# Altium footprint library LED.PcbLib: 1 footprints
Each footprint in its own frame and in the unit in brackets; x right, y up, seen from the top. Pads: shape width x height; smd on the part's side, far side on the other; paste and mask are expansions set on the pad; w line width, h text height; cw(c..) or ccw(c..) is an arc to the next point about the centre after c.
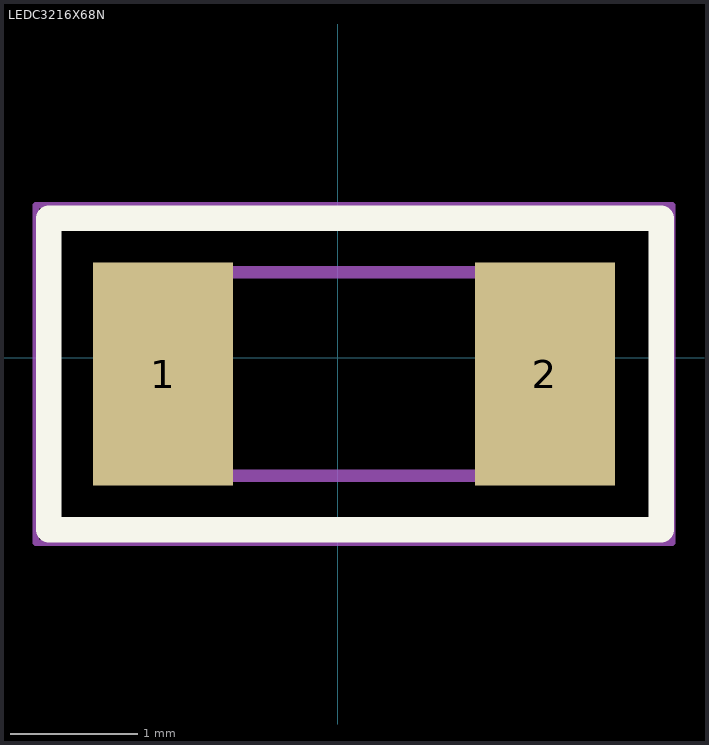
[diagram p0: the footprint, top view; thin cyan lines are the x and y axes]

## LEDC3216X68N [mm] "4V"
pads (2):
  rect 1.1x1.75 smd: 1(-1.373,-0.127) 2(1.627,-0.127)
Top Overlay:
  lines w0.2: -2.273,-1.352 2.54,-1.352 2.54,1.098 -2.273,1.098 -2.273,-1.352
Mechanical 13:
  lines w0.1: -1.473,0.14 -0.94,0.673 ; -1.473,-0.927 1.727,-0.927 1.727,0.673 -1.473,0.673 -1.473,-0.927
Mechanical 15:
  lines w0.05: -2.373,-1.452 2.627,-1.452 2.627,1.198 -2.373,1.198 -2.373,-1.452
3D body "598-8291-107F.STEP": height 0.7, standoff 0, extent -1.473,-0.927 1.727,0.673